# Altium footprint library orthofixture.PcbLib: 65 footprints (part 1 of 5)
Each footprint in its own frame and in the unit in brackets; x right, y up, seen from the top. Pads: shape width x height; smd on the part's side, far side on the other; paste and mask are expansions set on the pad; w line width, h text height; cw(c..) or ccw(c..) is an arc to the next point about the centre after c.
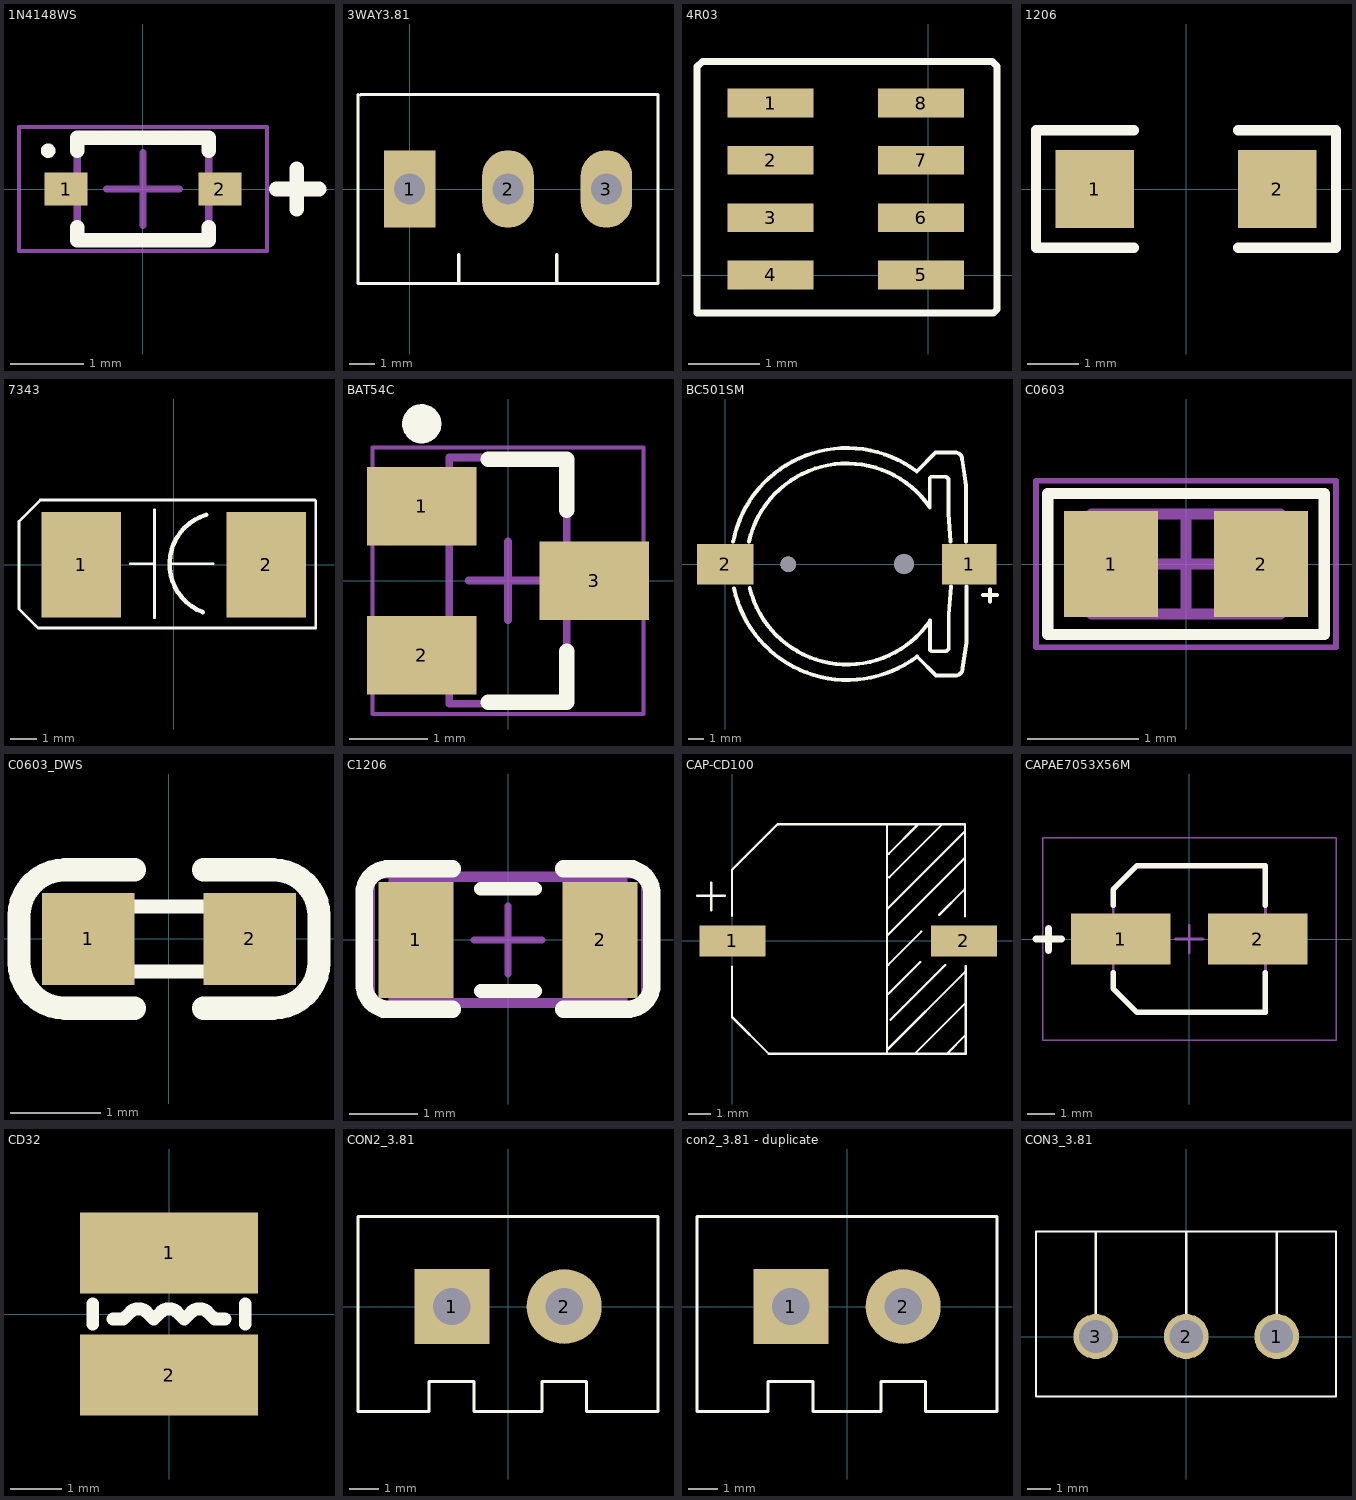
[diagram p0: the footprints below, top view; thin cyan lines are the x and y axes]

## 1N4148WS [mm] "SODFL, 2-Leads, Body 1.30x2.50mm, IPC Medium Density"
height 1.1
pads (2):
  rect 0.59x0.45 smd: 1(-1.055,0) 2(1.055,0)
Top Overlay:
  circle w0.1: c-1.3,0.525 r0.05
  lines w0.2: -0.9,-0.525 -0.9,-0.7 0.9,-0.7 0.9,-0.525 ; -0.9,0.525 -0.9,0.7 0.9,0.7 0.9,0.525 ; 1.829,0 2.413,0 ; 2.108,-0.279 2.108,0.279
Mechanical 13:
  lines w0.1: -0.9,-0.7 0.9,-0.7 0.9,0.7 -0.9,0.7 -0.9,-0.7
Mechanical 15:
  lines w0.05: -1.7,-0.85 1.7,-0.85 1.7,0.85 -1.7,0.85 -1.7,-0.85
  lines w0.1: -0.5,0 0.5,0 ; 0,-0.5 0,0.5
3D body: height 1.1, standoff 0, extent -0.9,-0.7 0.9,0.7

## 3WAY3.81 [mm]
height 15.49
pads (3):
  rect 2x3 hole 1.2: 1(0,0)
  oval 2x3 hole 1.2: 2(3.81,0) 3(7.62,0)
Top Overlay:
  lines w0.127: -2,3.65 -2,-3.65 9.62,-3.658 ; -1.906,3.65 9.62,3.658 9.62,-3.65 ; 1.9,-3.65 1.9,-2.54 ; 5.7,-3.65 5.7,-2.54

## 4R03 [mm]
height 15.49
pads (8):
  rect 1.2x0.4 smd: 1(-2.2,2.402) 2(-2.2,1.602) 3(-2.2,0.802) 4(-2.2,0.002) 5(-0.1,0.002) 6(-0.1,0.802) 7(-0.1,1.602) 8(-0.1,2.402)
Top Overlay:
  lines w0.1: -3.229,-0.528 0.908,-0.528 0.958,-0.478 0.958,2.916 0.891,2.983 -2.921,2.983 -3.154,2.983 -3.229,2.908 -3.229,-0.528

## 1206 [mil]
height 59.06
pads (2):
  rect 60x60 smd: 1(-70,0) 2(70,0)
Top Overlay:
  lines w7.87: -40,-45 -115,-45 -115,45 -40,45 ; 40,-45 115,-45 115,45 40,45
3D body: height 39.37, standoff 0, extent -55,-35 55,35
3D body: height 39.37, standoff 0, extent 55,-35 75,35
3D body: height 39.37, standoff 0, extent -75,-35 -55,35

## 7343 [mm]
height 3
pads (2):
  rect 3x4 smd: 1(-3.5,0) 2(3.5,0)
Top Overlay:
  lines w0.1: -1.637,0.037 -0.729,0.037 ; -0.729,-2.005 -0.729,2.087 ; -0.185,0.037 1.5,0.037 ; -5.859,-1.664 -5.132,-2.391 5.371,-2.391 5.371,2.424 5.339,2.456 -4.922,2.456 -5.051,2.456 -5.859,1.648 -5.859,-1.664
  lines w0.17: 1.1,-1.79 cw(c1.787,0.031) 1.229,1.895

## BAT54C [mm] "SOTFL, 3-Leads, Body 2.97x2.55mm, Pitch 0.95mm, IPC Medium Density"
height 1.2
pads (3):
  rect 1.4x1 smd: 1(-1.1,0.95) 2(-1.1,-0.95) 3(1.1,0)
Top Overlay:
  circle w0.25: c-1.1,2 r0.125
  lines w0.2: -0.25,-1.55 0.75,-1.55 0.75,-0.9 ; -0.25,1.55 0.75,1.55 0.75,0.9
Mechanical 13:
  lines w0.1: -0.75,-1.57 -0.75,1.57 0.75,1.57 0.75,-1.57 -0.75,-1.57
Mechanical 15:
  lines w0.05: -1.725,-1.7 -1.725,1.7 1.725,1.7 1.725,-1.7 -1.725,-1.7
  lines w0.1: -0.5,0 0.5,0 ; 0,-0.5 0,0.5
3D body: height 1.2, standoff 0, extent -0.75,-1.57 0.75,1.57

## BC501SM [mm] "CR1220,3V"
height 4
pads (2):
  rect 3.54x2.6 smd: 1(15.8,0)
  rect 3.66x2.6 smd: 2(0,0)
via 4.07,0 diameter 1 hole 1
via 11.57,0 diameter 1.3 hole 1.3
Top Overlay:
  lines w0.1: 12.442,5.974 12.442,6.053 ; 12.468,-6.028 12.468,-5.949 ; 14.3,5.664 14.351,5.613 ; 14.326,-5.639 14.376,-5.588
  lines w0.254: 0.515,1.472 cw(c7.875,0.025) 12.404,6.003 ; 0.564,-1.56 ccw(c7.9,0) 12.43,-5.978 ; 1.533,1.451 cw(c7.875,0.025) 13.247,3.684 13.247,5.576 13.335,5.664 14.3,5.664 ; 1.589,-1.554 ccw(c7.9,0) 13.272,-3.659 13.272,-5.551 13.36,-5.639 14.326,-5.639 ; 12.442,6.053 13.628,7.239 14.884,7.239 cw(c14.884,6.775) 15.348,6.775 15.596,5.105 15.596,1.473 ; 12.468,-6.028 13.653,-7.214 14.91,-7.214 ccw(c14.91,-6.75) 15.374,-6.75 15.621,-5.08 15.621,-1.448 ; 14.351,5.613 14.453,5.512 14.453,3.302 14.587,1.474 ; 14.376,-5.588 14.478,-5.486 14.478,-4.934 14.478,-3.829 14.478,-3.277 14.612,-1.448 ; 16.688,-2.007 17.602,-2.007 ; 17.145,-2.413 17.145,-1.626

## C0603 [mm] "Chip Capacitor, 2-Leads, Body 1.60x0.80mm, IPC Medium Density"
height 0.8
pads (2):
  rect 0.85x0.95 smd: 1(-0.675,0) 2(0.675,0)
Top Overlay:
  lines w0.1: -1.245,-0.635 -1.245,0.635 1.245,0.635 1.245,-0.635 -1.245,-0.635
Mechanical 13:
  lines w0.1: -0.85,-0.45 0.85,-0.45 0.85,0.45 -0.85,0.45 -0.85,-0.45
Mechanical 15:
  lines w0.05: -1.35,-0.75 1.35,-0.75 1.35,0.75 -1.35,0.75 -1.35,-0.75
  lines w0.1: -0.45,0 0.45,0 ; 0,-0.45 0,0.45
3D body: height 0.8, standoff 0, extent 0.5,-0.45 0.85,0.45
3D body: height 0.8, standoff 0, extent -0.85,-0.45 -0.5,0.45
3D body: height 0.8, standoff 0, extent -0.5,-0.45 0.5,0.45

## C0603_DWS [mil]
pads (2):
  rect 40x40 smd: 1(-35,0) 2(35,0)
Top Overlay:
  lines w6: -17.01,-14.02 17.01,-14.02 ; -17.01,14.01 17.01,14.01
  lines w10: -15,-30 -45,-30 cw(c-45,-10) -65,-10 -65,10 cw(c-45,10) -45,30 -15,30 ; 15,-30 45,-30 ccw(c45,-10) 65,-10 65,10 ccw(c45,10) 45,30 15,30

## C1206 [mm] "Chip Capacitor, Body 3.2x1.6mm, IPC High Density"
height 1.3
pads (2):
  rect 1.1x1.7 smd: 1(-1.35,0) 2(1.35,0)
Top Overlay:
  lines w0.2: -0.4,-0.75 0.4,-0.75 ; -0.4,0.75 0.4,0.75
  lines w0.254: -2.108,0.737 -2.108,-0.635 ccw(c-1.753,-0.66) -1.827,-1.009 ; -2.101,0.76 cw(c-1.753,0.686) -1.727,1.041 ; -1.829,-1.016 -0.813,-1.016 ; -1.753,1.041 -0.813,1.041 ; 0.813,-1.016 1.753,-1.016 ; 0.813,1.041 1.829,1.041 ; 1.727,-1.016 ccw(c1.753,-0.66) 2.101,-0.735 ; 1.827,1.034 cw(c1.753,0.686) 2.108,0.66 2.108,-0.711
Mechanical 13:
  lines w0.1: -1.7,-0.9 -1.7,0.9 1.7,0.9 1.7,-0.9 -1.7,-0.9
Mechanical 15:
  lines w0.1: -0.5,0 0.5,0 ; 0,-0.5 0,0.5 ; -2,-0.95 -2,0.95 2,0.95 2,-0.95 -2,-0.95
3D body: height 1.3, standoff 0, extent -1.7,-0.9 1.7,0.9

## CAP-CD100 [mm]
height 0.7
pads (2):
  rect 3x1.4 smd: 1(0,0) 2(10.5,0)
Top Overlay:
  lines w0.1: -1.602,2.051 -0.327,2.051 ; -0.955,1.375 -0.955,2.65 ; -0.02,1.141 -0.02,3.221 2.05,5.291 10.545,5.291 10.545,1.113 ; -0.018,-1.169 -0.018,-3.447 1.648,-5.113 2.959,-5.113 10.583,-5.113 10.583,-1.148 ; 7.013,-5.113 7.013,5.291 ; 7.013,-4.946 10.564,-1.395 ; 7.013,0.243 10.522,3.753 ; 7.013,1.436 10.548,4.971 ; 7.064,-2.404 8.517,-0.951 ; 7.065,-1.081 8.57,0.424 ; 7.09,3.952 8.415,5.277 ; 7.116,2.888 9.519,5.291 ; 7.168,-3.571 9.652,-1.087 ; 8.29,-5.096 10.583,-2.803 ; 9.373,1.176 10.538,2.341 ; 9.739,-5.099 10.567,-4.272

## CAPAE7053X56M [mm] "Aluminum Electrolytic Capacitor, Body 5.40x5.30x5.60mm, IPC Low Density"
height 5.6
pads (2):
  rect 3.6x1.85 smd: 1(-2.475,0) 2(2.475,0)
Top Overlay:
  lines w0.2: -2.75,-1.225 -2.75,-1.787 -1.887,-2.65 2.75,-2.65 2.75,-1.225 ; -2.75,1.225 -2.75,1.787 -1.887,2.65 2.75,2.65 2.75,1.225
  lines w0.254: -5.537,0 -4.623,0 ; -5.08,-0.406 -5.08,0.381
Mechanical 13:
  lines w0.1: -2.75,-1.787 -1.887,-2.65 2.75,-2.65 2.75,2.65 -1.887,2.65 -2.75,1.787 -2.75,-1.787
Mechanical 15:
  lines w0.05: -5.3,-3.65 -5.3,3.65 5.3,3.65 5.3,-3.65 -5.3,-3.65
  lines w0.1: -0.5,0 0.5,0 ; 0,-0.5 0,0.5
3D body: height 1.87, standoff 0, extent -2.75,-2.65 2.75,2.65
3D body: height 5.6, standoff 0, extent -2.75,-2.75 2.75,2.75

## CD32 [mm]
pads (2):
  rect 3.5x1.6 smd: 1(0,1.2) 2(0,-1.2)
Top Overlay:
  lines w0.254: -1.5,-0.2 -1.5,0.2 ; -1.1,-0.1 -0.9,-0.1 -0.758,0.041 cw(c-0.617,-0.1) -0.617,0.1 -0.583,0.1 cw(c-0.583,-0.1) -0.441,0.041 ; -0.441,0.041 -0.3,-0.1 -0.158,0.041 cw(c-0.017,-0.1) -0.017,0.1 ; -0.017,0.1 0.017,0.1 cw(c0.017,-0.1) 0.159,0.041 0.3,-0.1 0.441,0.041 cw(c0.583,-0.1) 0.583,0.1 0.617,0.1 cw(c0.617,-0.1) 0.759,0.041 0.9,-0.1 1.1,-0.1 ; 1.5,-0.2 1.5,0.2

## CON2_3.81 [mm]
height 15.49
pads (2):
  rect 2.54x2.54 hole 1.27: 1(-1.905,0)
  round 2.54 hole 1.27: 2(1.905,0)
Top Overlay:
  lines w0.1: 5.08,-3.556 2.663,-3.556 2.663,-2.54 1.15,-2.54 1.15,-3.556 -1.158,-3.556 -1.158,-2.54 -2.672,-2.54 -2.672,-3.556 -5.085,-3.556 -5.085,3.048 5.08,3.048 ; 5.085,-3.556 5.085,3.048

## con2_3.81 - duplicate [mm]
pads (2):
  rect 2.54x2.54 hole 1.27: 1(-1.905,0)
  round 2.54 hole 1.27: 2(1.905,0)
Top Overlay:
  lines w0.1: 5.08,-3.556 2.663,-3.556 2.663,-2.54 1.15,-2.54 1.15,-3.556 -1.158,-3.556 -1.158,-2.54 -2.672,-2.54 -2.672,-3.556 -5.085,-3.556 -5.085,3.048 5.08,3.048 ; 5.085,-3.556 5.085,3.048

## CON3_3.81 [mm]
height 15.49
pads (3):
  round 1.9 hole 1.4: 1(3.83,0) 2(0,0) 3(-3.83,0)
Top Overlay:
  lines w0.1: -3.83,0 -3.83,4.435 ; 0,0 0,4.435 ; 3.83,0 3.83,4.435 ; -6.36,-2.54 -6.36,4.445 6.34,4.445 6.34,-2.54 -6.36,-2.54